# Altium schematic symbol library Schlib1.SchLib: 1 symbol
Pins are listed as number, name and electrical type; pins without a type are passive.

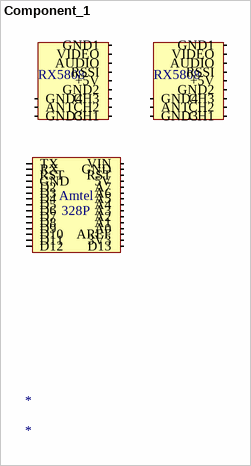
[diagram p0: symbol Component_1]

## Component_1
designator *
pins: 1 TX, 2 RX, 3 RST, 4 GND, 5 D2, 6 D3, 7 D4, 8 D5, 9 D6, 10 D7, 11 D8, 12 D9, 13 D10, 14 D11, 15 D12, 16 VIN, 17 GND, 18 RST, 19 5V, 20 A7, 21 A6, 22 A5, 23 A4, 24 A3, 25 A2, 26 A1, 27 A0, 28 AREF, 29 3V3, 30 D13, 31 GND1, 31 GND1, 32 VIDEO, 32 VIDEO, 33 AUDIO, 33 AUDIO, 34 RSSI, 34 RSSI, 35 +5V, 35 +5V, 36 GND2, 36 GND2, 37 CH3, 37 CH3, 38 CH2, 38 CH2, 39 CH1, 39 CH1, 40 GND4, 40 GND4, 41 ANT, 41 ANT, 42 GND3, 42 GND3
text: RX5808; Amtel; 328P